# Altium footprint library 1kOhm-Res.PcbLib: 3 footprints
Each footprint in its own frame and in the unit in brackets; x right, y up, seen from the top. Pads: shape width x height; smd on the part's side, far side on the other; paste and mask are expansions set on the pad; w line width, h text height; cw(c..) or ccw(c..) is an arc to the next point about the centre after c.
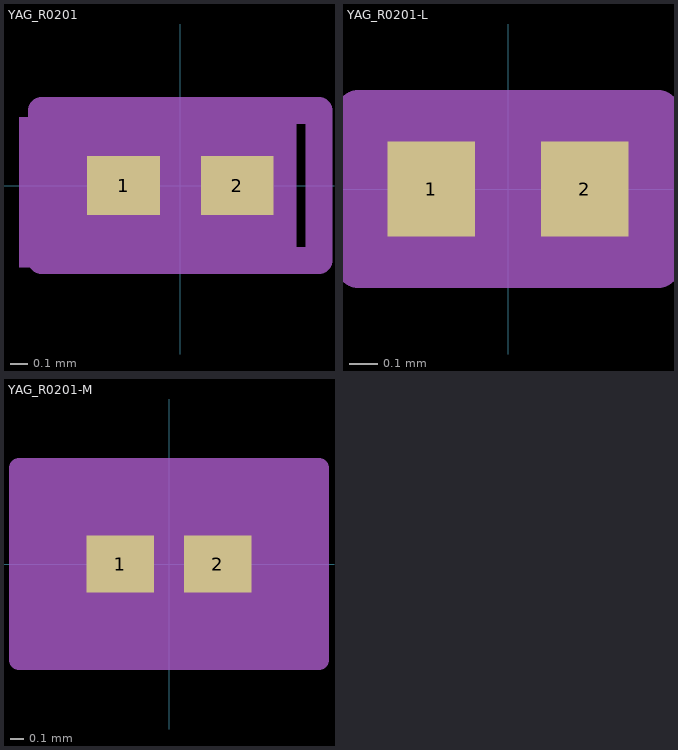
[diagram p0: the footprints below, top view; thin cyan lines are the x and y axes]

## YAG_R0201 [mil]
pads (2):
  rect 16x13 smd paste+0 mask+0: 1(-12.5,0) 2(12.5,0)
Mechanical 13:
  lines w1: -12.5,-6.5 -12.5,6.5 ; -12.5,-6.5 12.5,-6.5 ; -12.5,-6.5 -4.5,-6.5 -4.5,6.5 -12.5,6.5 ; -12.5,-6.5 -12.5,6.5 ; -12.5,6.5 12.5,6.5 ; 12.5,-6.5 12.5,6.5 ; 12.5,-6.5 12.5,6.5 ; 12.5,-6.5 4.5,-6.5 4.5,6.5 12.5,6.5
Mechanical 15:
  region: 25.5,-18 -35.5,-18 -35.5,15 25.5,15
  lines w6: -30.5,-16.5 30.5,-16.5 30.5,16.5 -30.5,16.5 -30.5,-16.5
3D body "YAG_R0201.stp": height 10, standoff 0, extent -12.51,-6.49 12.53,6.5

## YAG_R0201-L [mil]
pads (2):
  rect 12x13 smd paste+0 mask+0: 1(-10.5,0) 2(10.5,0)
Mechanical 13:
  lines w1: -12.5,-6.5 -12.5,6.5 ; -12.5,-6.5 -4.5,-6.5 -4.5,6.5 -12.5,6.5 ; -12.5,-6.5 12.5,-6.5 ; -12.5,-6.5 -12.5,6.5 ; -12.5,6.5 12.5,6.5 ; 12.5,-6.5 4.5,-6.5 4.5,6.5 12.5,6.5 ; 12.5,-6.5 12.5,6.5 ; 12.5,-6.5 12.5,6.5
Mechanical 15:
  region: 20.5,-10.5 -20.5,-10.5 -20.5,10.5 20.5,10.5
  lines w6: -20.5,-10.5 -20.5,10.5 20.5,10.5 20.5,-10.5 -20.5,-10.5
3D body: height 10, standoff 0, extent 0,0 10,10

## YAG_R0201-M [mil]
pads (2):
  rect 20x17 smd paste+0 mask+0: 1(-14.5,0) 2(14.5,0)
Mechanical 13:
  lines w1: -12.5,-6.5 -12.5,6.5 ; -12.5,-6.5 -4.5,-6.5 -4.5,6.5 -12.5,6.5 ; -12.5,-6.5 12.5,-6.5 ; -12.5,-6.5 -12.5,6.5 ; -12.5,6.5 12.5,6.5 ; 12.5,-6.5 4.5,-6.5 4.5,6.5 12.5,6.5 ; 12.5,-6.5 12.5,6.5 ; 12.5,-6.5 12.5,6.5
Mechanical 15:
  region: 44.5,-28.5 -44.5,-28.5 -44.5,28.5 44.5,28.5
  lines w6: -44.5,-28.5 -44.5,28.5 44.5,28.5 44.5,-28.5 -44.5,-28.5
3D body: height 10, standoff 0, extent 0,0 10,10